# Altium integrated library Microchip Power Management Line Regulator.IntLib: 1174 symbols (part 9 of 31)
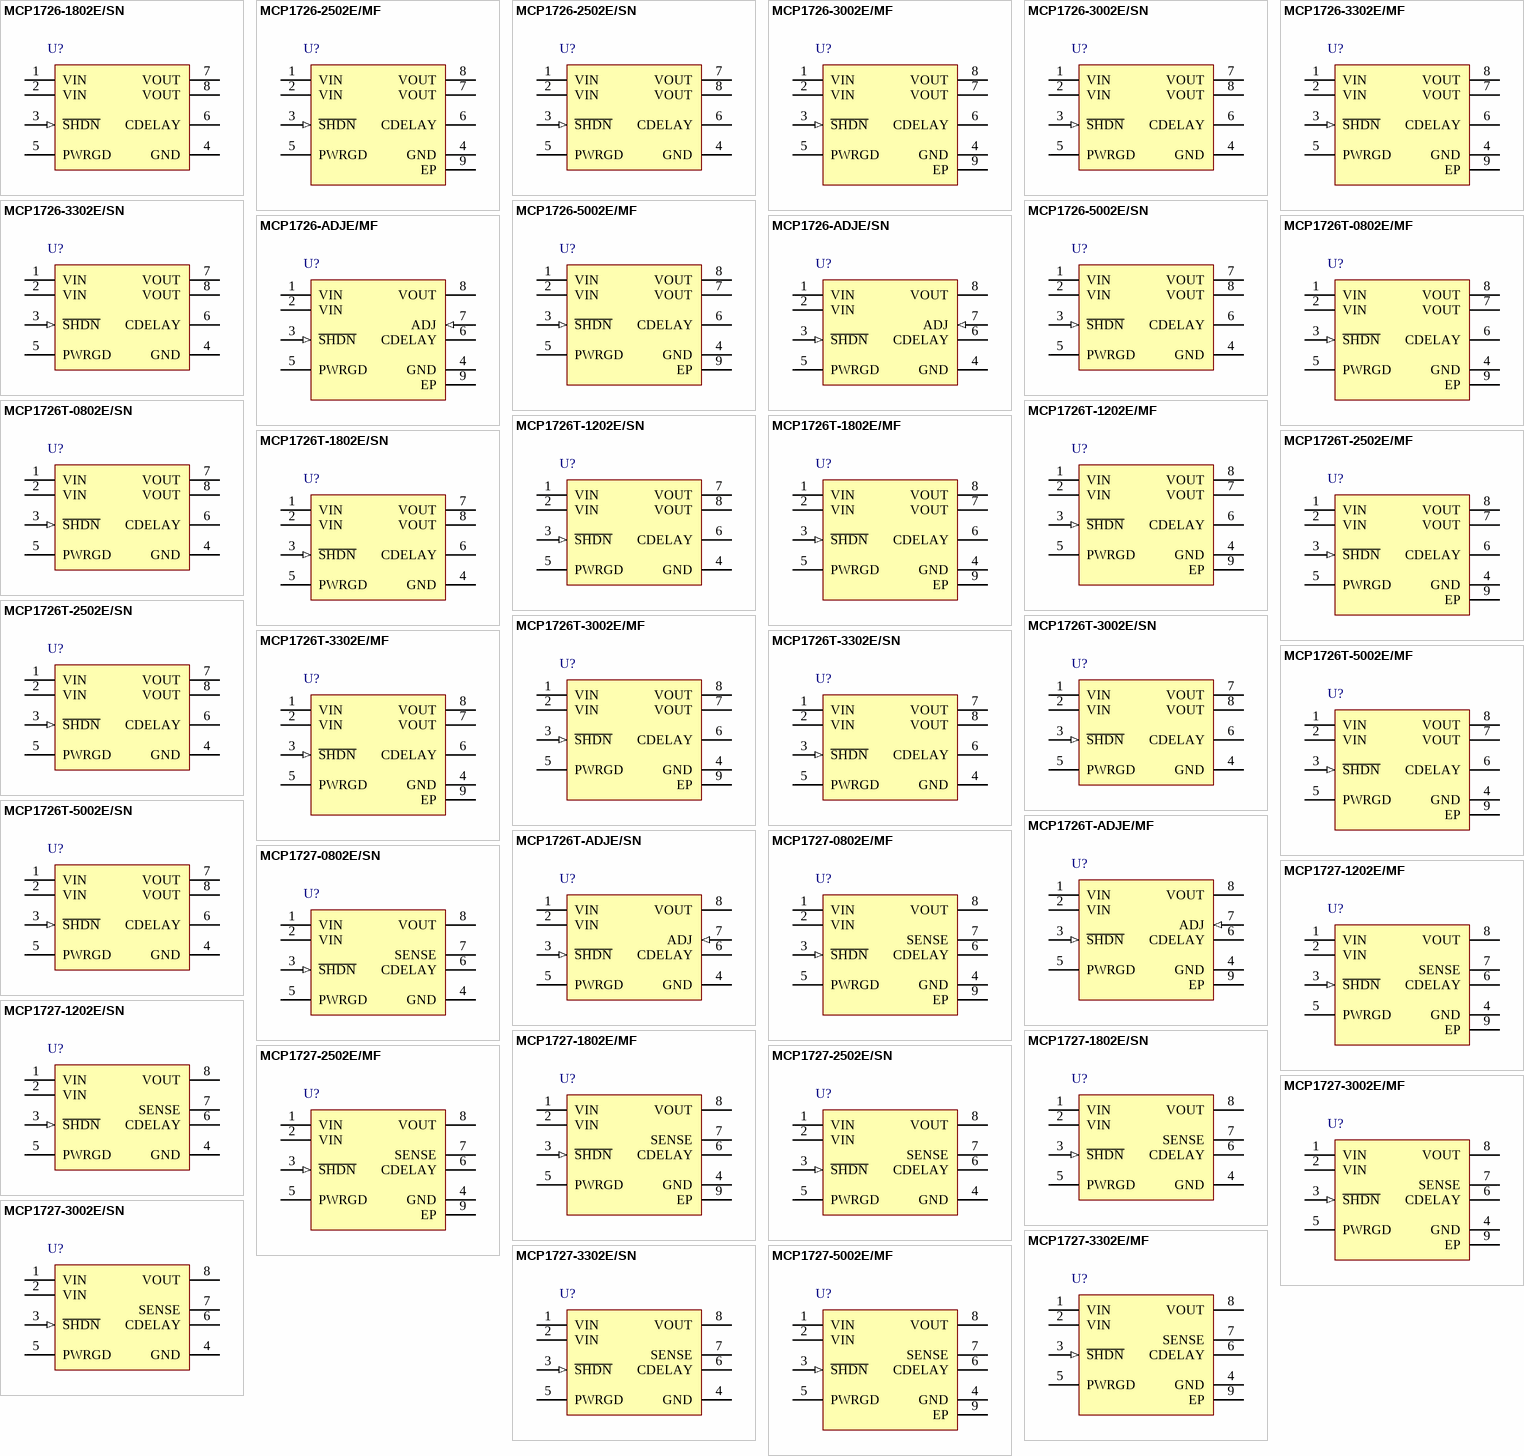
[diagram p38: symbols MCP1726-1802E/SN to MCP1727-5002E/MF]

## MCP1727-1802E/SN
designator U?
1.5A, Low Voltage, Low Quiescent Current LDO Regulator, 8-Pin SOIC 150mil, Extended Temperature; Manufacturer: Microchip; PartNumber: MCP1727-1802E/SN; DatasheetVersion: revB, Feb-2007; PackageVersion: revBB, Aug-2009; PackageReference: SOIC-SN8; PackageDescription: 8-Lead Plastic Small Outline (SN) - Narrow, 3.90mm Body [SOIC]; Supplier 1: Digi-Key; Supplier Part Number 1: MCP1727-1802E/SN-ND; Supplier 2: Farnell; Supplier Part Number 2: 1331495; Supplier 3: Newark; Supplier Part Number 3: 74K5381; Supplier 4: Mouser; Supplier Part Number 4: 579-MCP1727-1802E/SN; Mounting Technology: Surface Mount; Code_JEDEC: MS-012; Code_IPC: SOIC127P600-8; ComponentLink1Description: Manufacturer URL; ComponentLink1URL: http://www.microchip.com/; ComponentLink2Description: Datasheet; ComponentLink2URL: http://ww1.microchip.com/downloads/en/DeviceDoc/21999b.pdf; ComponentLink3Description: Package Specification; ComponentLink3URL: http://www.microchip.com/stellent/groups/techpub_sg/documents/packagingspec/en012702.pdf
footprint SOIC-SN8_N (SOIC, 8-Leads, Body 4.9x3.8mm, Pitch 1.27mm, IPC Medium Density)
footprint SOIC-SN8_L (SOIC, 8-Leads, Body 4.9x3.8mm, Pitch 1.27mm, IPC High Density)
footprint SOIC-SN8_M (SOIC, 8-Leads, Body 4.9x3.8mm, Pitch 1.27mm, IPC Low Density)
pins: 1 VIN (power), 2 VIN (power), 3 ~{SHDN} (in), 4 GND (power), 5 PWRGD (power), 6 CDELAY, 7 SENSE, 8 VOUT (power)

## MCP1727-2502E/MF
designator U?
1.5A, Low Voltage, Low Quiescent Current LDO Regulator, 8-Pin DFN, Extended Temperature; Manufacturer: Microchip; PartNumber: MCP1727-2502E/MF; DatasheetVersion: revB, Feb-2007; PackageVersion: revBB, Aug-2009; PackageReference: DFN-MF8; PackageDescription: 8-Lead Plastic Dual Flat, No Lead Package (MF) - 3x3x0.9mm Body [DFN]; Supplier 1: Digi-Key; Supplier Part Number 1: MCP1727-2502E/MF-ND; Supplier 2: Farnell; Supplier Part Number 2: 1851976; Supplier 3: Newark; Supplier Part Number 3: 74K5382; Supplier 4: Mouser; Supplier Part Number 4: 579-MCP1727-2502E/MF; Mounting Technology: Surface Mount; ComponentLink1Description: Manufacturer URL; ComponentLink1URL: http://www.microchip.com/; ComponentLink2Description: Datasheet; ComponentLink2URL: http://ww1.microchip.com/downloads/en/DeviceDoc/21999b.pdf; ComponentLink3Description: Package Specification; ComponentLink3URL: http://www.microchip.com/stellent/groups/techpub_sg/documents/packagingspec/en012702.pdf
footprint DFN-MF8 (SON, 8-Leads, Body 3x3mm, Pitch 0.65mm, Microchip Recommended)
pins: 1 VIN (power), 2 VIN (power), 3 ~{SHDN} (in), 4 GND (power), 5 PWRGD (power), 6 CDELAY, 7 SENSE, 8 VOUT (power), 9 EP (power)

## MCP1727-2502E/SN
designator U?
1.5A, Low Voltage, Low Quiescent Current LDO Regulator, 8-Pin SOIC 150mil, Extended Temperature; Manufacturer: Microchip; PartNumber: MCP1727-2502E/SN; DatasheetVersion: revB, Feb-2007; PackageVersion: revBB, Aug-2009; PackageReference: SOIC-SN8; PackageDescription: 8-Lead Plastic Small Outline (SN) - Narrow, 3.90mm Body [SOIC]; Supplier 1: Digi-Key; Supplier Part Number 1: MCP1727-2502E/SN-ND; Supplier 2: Farnell; Supplier Part Number 2: 1851977; Supplier 3: Newark; Supplier Part Number 3: 74K5383; Supplier 4: Mouser; Supplier Part Number 4: 579-MCP1727-2502E/SN; Mounting Technology: Surface Mount; Code_JEDEC: MS-012; Code_IPC: SOIC127P600-8; ComponentLink1Description: Manufacturer URL; ComponentLink1URL: http://www.microchip.com/; ComponentLink2Description: Datasheet; ComponentLink2URL: http://ww1.microchip.com/downloads/en/DeviceDoc/21999b.pdf; ComponentLink3Description: Package Specification; ComponentLink3URL: http://www.microchip.com/stellent/groups/techpub_sg/documents/packagingspec/en012702.pdf
footprint SOIC-SN8_N (SOIC, 8-Leads, Body 4.9x3.8mm, Pitch 1.27mm, IPC Medium Density)
footprint SOIC-SN8_L (SOIC, 8-Leads, Body 4.9x3.8mm, Pitch 1.27mm, IPC High Density)
footprint SOIC-SN8_M (SOIC, 8-Leads, Body 4.9x3.8mm, Pitch 1.27mm, IPC Low Density)
pins: 1 VIN (power), 2 VIN (power), 3 ~{SHDN} (in), 4 GND (power), 5 PWRGD (power), 6 CDELAY, 7 SENSE, 8 VOUT (power)

## MCP1727-3002E/MF
designator U?
1.5A, Low Voltage, Low Quiescent Current LDO Regulator, 8-Pin DFN, Extended Temperature; Manufacturer: Microchip; PartNumber: MCP1727-3002E/MF; DatasheetVersion: revB, Feb-2007; PackageVersion: revBB, Aug-2009; PackageReference: DFN-MF8; PackageDescription: 8-Lead Plastic Dual Flat, No Lead Package (MF) - 3x3x0.9mm Body [DFN]; Supplier 1: Digi-Key; Supplier Part Number 1: MCP1727-3002E/MF-ND; Supplier 2: Farnell; Supplier Part Number 2: 1863930; Supplier 3: Newark; Supplier Part Number 3: 17M0619; Supplier 4: Mouser; Supplier Part Number 4: 579-MCP1727-3002E/MF; Mounting Technology: Surface Mount; ComponentLink1Description: Manufacturer URL; ComponentLink1URL: http://www.microchip.com/; ComponentLink2Description: Datasheet; ComponentLink2URL: http://ww1.microchip.com/downloads/en/DeviceDoc/21999b.pdf; ComponentLink3Description: Package Specification; ComponentLink3URL: http://www.microchip.com/stellent/groups/techpub_sg/documents/packagingspec/en012702.pdf
footprint DFN-MF8 (SON, 8-Leads, Body 3x3mm, Pitch 0.65mm, Microchip Recommended)
pins: 1 VIN (power), 2 VIN (power), 3 ~{SHDN} (in), 4 GND (power), 5 PWRGD (power), 6 CDELAY, 7 SENSE, 8 VOUT (power), 9 EP (power)

## MCP1727-3002E/SN
designator U?
1.5A, Low Voltage, Low Quiescent Current LDO Regulator, 8-Pin SOIC 150mil, Extended Temperature; Manufacturer: Microchip; PartNumber: MCP1727-3002E/SN; DatasheetVersion: revB, Feb-2007; PackageVersion: revBB, Aug-2009; PackageReference: SOIC-SN8; PackageDescription: 8-Lead Plastic Small Outline (SN) - Narrow, 3.90mm Body [SOIC]; Supplier 1: Digi-Key; Supplier Part Number 1: MCP1727-3002E/SN-ND; Supplier 2: Farnell; Supplier Part Number 2: 1331496; Supplier 3: Mouser; Supplier Part Number 3: 579-MCP1727-3002E/SN; Mounting Technology: Surface Mount; Code_JEDEC: MS-012; Code_IPC: SOIC127P600-8; ComponentLink1Description: Manufacturer URL; ComponentLink1URL: http://www.microchip.com/; ComponentLink2Description: Datasheet; ComponentLink2URL: http://ww1.microchip.com/downloads/en/DeviceDoc/21999b.pdf; ComponentLink3Description: Package Specification; ComponentLink3URL: http://www.microchip.com/stellent/groups/techpub_sg/documents/packagingspec/en012702.pdf
footprint SOIC-SN8_N (SOIC, 8-Leads, Body 4.9x3.8mm, Pitch 1.27mm, IPC Medium Density)
footprint SOIC-SN8_L (SOIC, 8-Leads, Body 4.9x3.8mm, Pitch 1.27mm, IPC High Density)
footprint SOIC-SN8_M (SOIC, 8-Leads, Body 4.9x3.8mm, Pitch 1.27mm, IPC Low Density)
pins: 1 VIN (power), 2 VIN (power), 3 ~{SHDN} (in), 4 GND (power), 5 PWRGD (power), 6 CDELAY, 7 SENSE, 8 VOUT (power)

## MCP1727-3302E/MF
designator U?
1.5A, Low Voltage, Low Quiescent Current LDO Regulator, 8-Pin DFN, Extended Temperature; Manufacturer: Microchip; PartNumber: MCP1727-3302E/MF; DatasheetVersion: revB, Feb-2007; PackageVersion: revBB, Aug-2009; PackageReference: DFN-MF8; PackageDescription: 8-Lead Plastic Dual Flat, No Lead Package (MF) - 3x3x0.9mm Body [DFN]; Supplier 1: Digi-Key; Supplier Part Number 1: MCP1727-3302E/MF-ND; Supplier 2: Farnell; Supplier Part Number 2: 1851978; Supplier 3: Newark; Supplier Part Number 3: 74K5384; Supplier 4: Mouser; Supplier Part Number 4: 579-MCP1727-3302E/MF; Mounting Technology: Surface Mount; ComponentLink1Description: Manufacturer URL; ComponentLink1URL: http://www.microchip.com/; ComponentLink2Description: Datasheet; ComponentLink2URL: http://ww1.microchip.com/downloads/en/DeviceDoc/21999b.pdf; ComponentLink3Description: Package Specification; ComponentLink3URL: http://www.microchip.com/stellent/groups/techpub_sg/documents/packagingspec/en012702.pdf
footprint DFN-MF8 (SON, 8-Leads, Body 3x3mm, Pitch 0.65mm, Microchip Recommended)
pins: 1 VIN (power), 2 VIN (power), 3 ~{SHDN} (in), 4 GND (power), 5 PWRGD (power), 6 CDELAY, 7 SENSE, 8 VOUT (power), 9 EP (power)

## MCP1727-3302E/SN
designator U?
1.5A, Low Voltage, Low Quiescent Current LDO Regulator, 8-Pin SOIC 150mil, Extended Temperature; Manufacturer: Microchip; PartNumber: MCP1727-3302E/SN; DatasheetVersion: revB, Feb-2007; PackageVersion: revBB, Aug-2009; PackageReference: SOIC-SN8; PackageDescription: 8-Lead Plastic Small Outline (SN) - Narrow, 3.90mm Body [SOIC]; Supplier 1: Digi-Key; Supplier Part Number 1: MCP1727-3302E/SN-ND; Supplier 2: Farnell; Supplier Part Number 2: 1331497; Supplier 3: Newark; Supplier Part Number 3: 34M7431; Supplier 4: Mouser; Supplier Part Number 4: 579-MCP1727-3302E/SN; Mounting Technology: Surface Mount; Code_JEDEC: MS-012; Code_IPC: SOIC127P600-8; ComponentLink1Description: Manufacturer URL; ComponentLink1URL: http://www.microchip.com/; ComponentLink2Description: Datasheet; ComponentLink2URL: http://ww1.microchip.com/downloads/en/DeviceDoc/21999b.pdf; ComponentLink3Description: Package Specification; ComponentLink3URL: http://www.microchip.com/stellent/groups/techpub_sg/documents/packagingspec/en012702.pdf
footprint SOIC-SN8_N (SOIC, 8-Leads, Body 4.9x3.8mm, Pitch 1.27mm, IPC Medium Density)
footprint SOIC-SN8_L (SOIC, 8-Leads, Body 4.9x3.8mm, Pitch 1.27mm, IPC High Density)
footprint SOIC-SN8_M (SOIC, 8-Leads, Body 4.9x3.8mm, Pitch 1.27mm, IPC Low Density)
pins: 1 VIN (power), 2 VIN (power), 3 ~{SHDN} (in), 4 GND (power), 5 PWRGD (power), 6 CDELAY, 7 SENSE, 8 VOUT (power)

## MCP1727-5002E/MF
designator U?
1.5A, Low Voltage, Low Quiescent Current LDO Regulator, 8-Pin DFN, Extended Temperature; Manufacturer: Microchip; PartNumber: MCP1727-5002E/MF; DatasheetVersion: revB, Feb-2007; PackageVersion: revBB, Aug-2009; PackageReference: DFN-MF8; PackageDescription: 8-Lead Plastic Dual Flat, No Lead Package (MF) - 3x3x0.9mm Body [DFN]; Supplier 1: Digi-Key; Supplier Part Number 1: MCP1727-5002E/MF-ND; Supplier 2: Farnell; Supplier Part Number 2: 1863931; Supplier 3: Newark; Supplier Part Number 3: 74K5386; Supplier 4: Mouser; Supplier Part Number 4: 579-MCP1727-5002E/MF; Mounting Technology: Surface Mount; ComponentLink1Description: Manufacturer URL; ComponentLink1URL: http://www.microchip.com/; ComponentLink2Description: Datasheet; ComponentLink2URL: http://ww1.microchip.com/downloads/en/DeviceDoc/21999b.pdf; ComponentLink3Description: Package Specification; ComponentLink3URL: http://www.microchip.com/stellent/groups/techpub_sg/documents/packagingspec/en012702.pdf
footprint DFN-MF8 (SON, 8-Leads, Body 3x3mm, Pitch 0.65mm, Microchip Recommended)
pins: 1 VIN (power), 2 VIN (power), 3 ~{SHDN} (in), 4 GND (power), 5 PWRGD (power), 6 CDELAY, 7 SENSE, 8 VOUT (power), 9 EP (power)

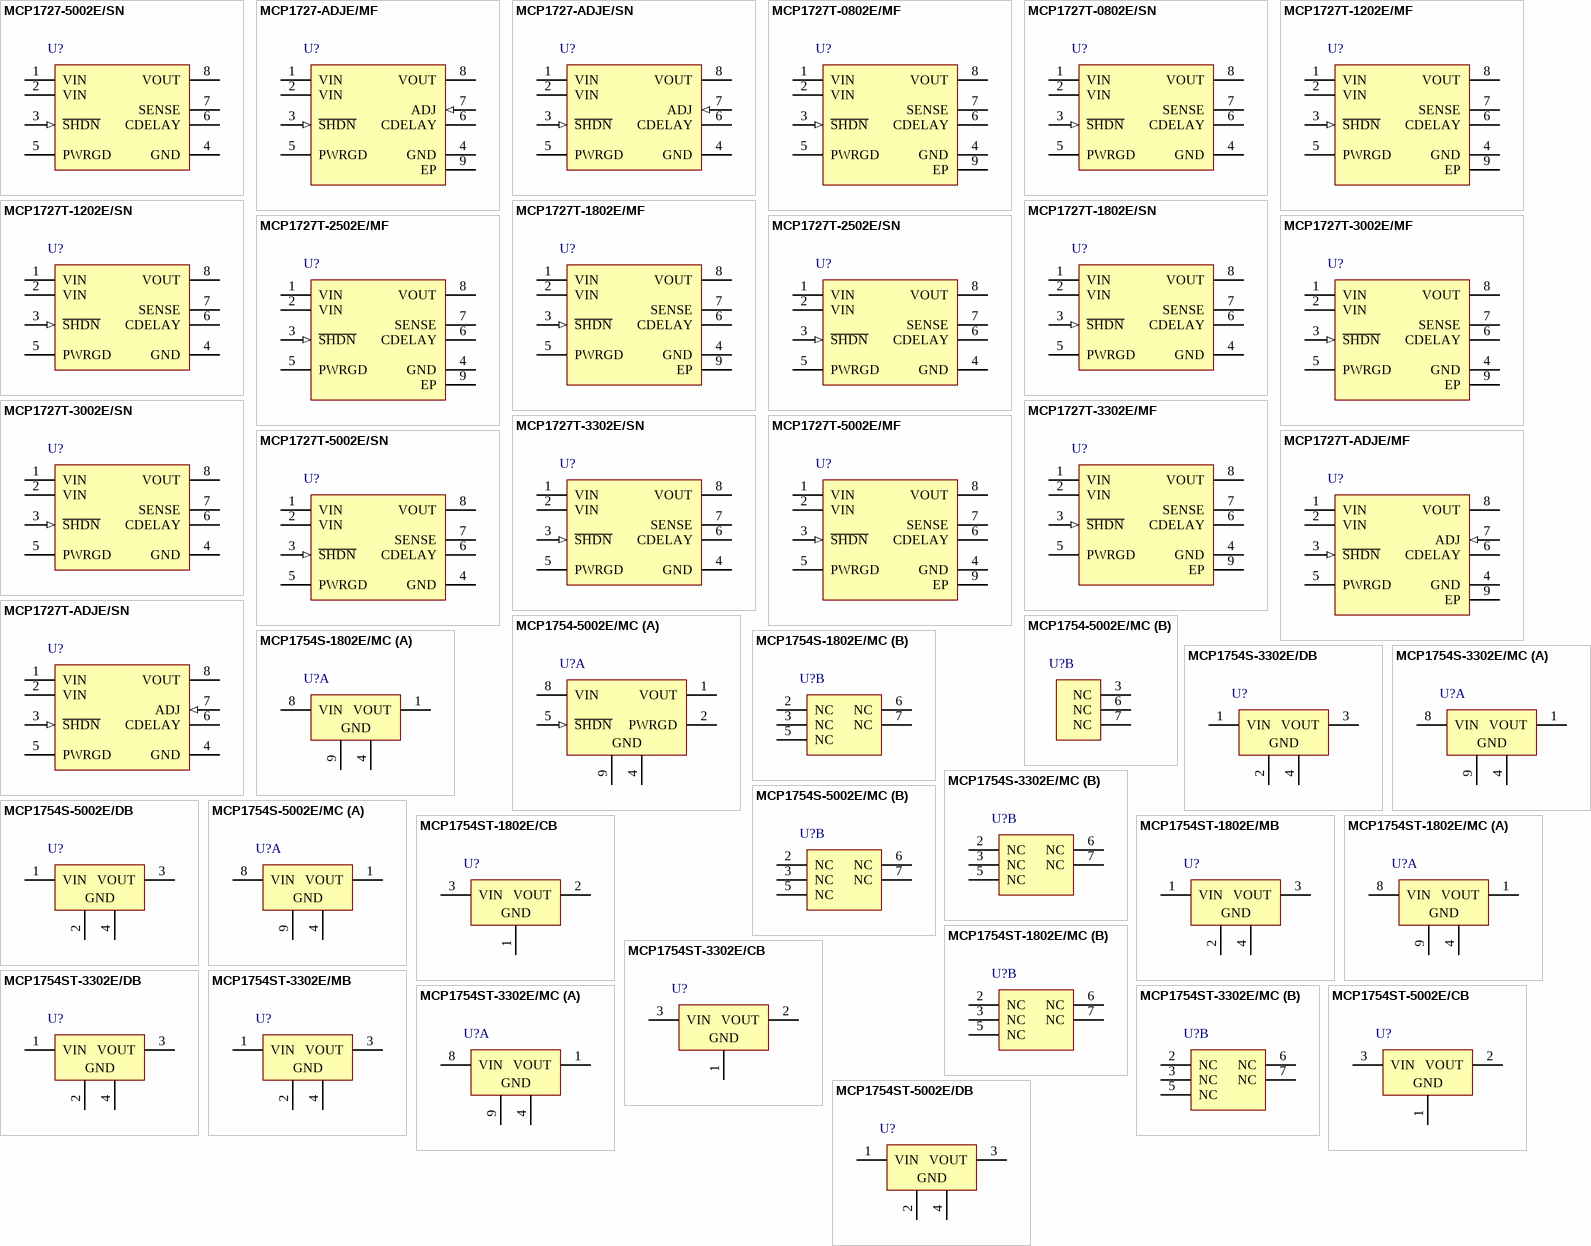
[diagram p8: symbols MCP1727-5002E/SN to MCP1754ST-5002E/DB]

## MCP1727-5002E/SN
designator U?
1.5A, Low Voltage, Low Quiescent Current LDO Regulator, 8-Pin SOIC 150mil, Extended Temperature; Manufacturer: Microchip; PartNumber: MCP1727-5002E/SN; DatasheetVersion: revB, Feb-2007; PackageVersion: revBB, Aug-2009; PackageReference: SOIC-SN8; PackageDescription: 8-Lead Plastic Small Outline (SN) - Narrow, 3.90mm Body [SOIC]; Supplier 1: Digi-Key; Supplier Part Number 1: MCP1727-5002E/SN-ND; Supplier 2: Mouser; Supplier Part Number 2: 579-MCP1727-5002E/SN; Mounting Technology: Surface Mount; Code_JEDEC: MS-012; Code_IPC: SOIC127P600-8; ComponentLink1Description: Manufacturer URL; ComponentLink1URL: http://www.microchip.com/; ComponentLink2Description: Datasheet; ComponentLink2URL: http://ww1.microchip.com/downloads/en/DeviceDoc/21999b.pdf; ComponentLink3Description: Package Specification; ComponentLink3URL: http://www.microchip.com/stellent/groups/techpub_sg/documents/packagingspec/en012702.pdf
footprint SOIC-SN8_N (SOIC, 8-Leads, Body 4.9x3.8mm, Pitch 1.27mm, IPC Medium Density)
footprint SOIC-SN8_L (SOIC, 8-Leads, Body 4.9x3.8mm, Pitch 1.27mm, IPC High Density)
footprint SOIC-SN8_M (SOIC, 8-Leads, Body 4.9x3.8mm, Pitch 1.27mm, IPC Low Density)
pins: 1 VIN (power), 2 VIN (power), 3 ~{SHDN} (in), 4 GND (power), 5 PWRGD (power), 6 CDELAY, 7 SENSE, 8 VOUT (power)

## MCP1727-ADJE/MF
designator U?
1.5A, Low Voltage, Low Quiescent Current LDO Regulator, 8-Pin DFN, Extended Temperature; Manufacturer: Microchip; PartNumber: MCP1727-ADJE/MF; DatasheetVersion: revB, Feb-2007; PackageVersion: revBB, Aug-2009; PackageReference: DFN-MF8; PackageDescription: 8-Lead Plastic Dual Flat, No Lead Package (MF) - 3x3x0.9mm Body [DFN]; Supplier 1: Digi-Key; Supplier Part Number 1: MCP1727-ADJE/MF-ND; Supplier 2: Farnell; Supplier Part Number 2: 1851979; Supplier 3: Newark; Supplier Part Number 3: 74K5374; Supplier 4: Mouser; Supplier Part Number 4: 579-MCP1727-ADJE/MF; Mounting Technology: Surface Mount; ComponentLink1Description: Manufacturer URL; ComponentLink1URL: http://www.microchip.com/; ComponentLink2Description: Datasheet; ComponentLink2URL: http://ww1.microchip.com/downloads/en/DeviceDoc/21999b.pdf; ComponentLink3Description: Package Specification; ComponentLink3URL: http://www.microchip.com/stellent/groups/techpub_sg/documents/packagingspec/en012702.pdf
footprint DFN-MF8 (SON, 8-Leads, Body 3x3mm, Pitch 0.65mm, Microchip Recommended)
pins: 1 VIN (power), 2 VIN (power), 3 ~{SHDN} (in), 4 GND (power), 5 PWRGD (power), 6 CDELAY, 7 ADJ (in), 8 VOUT (power), 9 EP (power)

## MCP1727-ADJE/SN
designator U?
1.5A, Low Voltage, Low Quiescent Current LDO Regulator, 8-Pin SOIC 150mil, Extended Temperature; Manufacturer: Microchip; PartNumber: MCP1727-ADJE/SN; DatasheetVersion: revB, Feb-2007; PackageVersion: revBB, Aug-2009; PackageReference: SOIC-SN8; PackageDescription: 8-Lead Plastic Small Outline (SN) - Narrow, 3.90mm Body [SOIC]; Supplier 1: Digi-Key; Supplier Part Number 1: MCP1727-ADJE/SN-ND; Supplier 2: Farnell; Supplier Part Number 2: 1840849; Supplier 3: Newark; Supplier Part Number 3: 74K5375; Supplier 4: Mouser; Supplier Part Number 4: 579-MCP1727-ADJE/SN; Mounting Technology: Surface Mount; Code_JEDEC: MS-012; Code_IPC: SOIC127P600-8; ComponentLink1Description: Manufacturer URL; ComponentLink1URL: http://www.microchip.com/; ComponentLink2Description: Datasheet; ComponentLink2URL: http://ww1.microchip.com/downloads/en/DeviceDoc/21999b.pdf; ComponentLink3Description: Package Specification; ComponentLink3URL: http://www.microchip.com/stellent/groups/techpub_sg/documents/packagingspec/en012702.pdf
footprint SOIC-SN8_N (SOIC, 8-Leads, Body 4.9x3.8mm, Pitch 1.27mm, IPC Medium Density)
footprint SOIC-SN8_L (SOIC, 8-Leads, Body 4.9x3.8mm, Pitch 1.27mm, IPC High Density)
footprint SOIC-SN8_M (SOIC, 8-Leads, Body 4.9x3.8mm, Pitch 1.27mm, IPC Low Density)
pins: 1 VIN (power), 2 VIN (power), 3 ~{SHDN} (in), 4 GND (power), 5 PWRGD (power), 6 CDELAY, 7 ADJ (in), 8 VOUT (power)

## MCP1727T-0802E/MF
designator U?
1.5A, Low Voltage, Low Quiescent Current LDO Regulator, 8-Pin DFN, Extended Temperature, Tape and Reel; Manufacturer: Microchip; PartNumber: MCP1727T-0802E/MF; DatasheetVersion: revB, Feb-2007; PackageVersion: revBB, Aug-2009; PackageReference: DFN-MF8; PackageDescription: 8-Lead Plastic Dual Flat, No Lead Package (MF) - 3x3x0.9mm Body [DFN]; Supplier 1: Digi-Key; Supplier Part Number 1: MCP1727T-0802E/MF-ND; Supplier 2: Mouser; Supplier Part Number 2: 579-MCP1727T-0802EMF; Mounting Technology: Surface Mount; ComponentLink1Description: Manufacturer URL; ComponentLink1URL: http://www.microchip.com/; ComponentLink2Description: Datasheet; ComponentLink2URL: http://ww1.microchip.com/downloads/en/DeviceDoc/21999b.pdf; ComponentLink3Description: Package Specification; ComponentLink3URL: http://www.microchip.com/stellent/groups/techpub_sg/documents/packagingspec/en012702.pdf
footprint DFN-MF8 (SON, 8-Leads, Body 3x3mm, Pitch 0.65mm, Microchip Recommended)
pins: 1 VIN (power), 2 VIN (power), 3 ~{SHDN} (in), 4 GND (power), 5 PWRGD (power), 6 CDELAY, 7 SENSE, 8 VOUT (power), 9 EP (power)

## MCP1727T-0802E/SN
designator U?
1.5A, Low Voltage, Low Quiescent Current LDO Regulator, 8-Pin SOIC 150mil, Extended Temperature, Tape and Reel; Manufacturer: Microchip; PartNumber: MCP1727T-0802E/SN; DatasheetVersion: revB, Feb-2007; PackageVersion: revBB, Aug-2009; PackageReference: SOIC-SN8; PackageDescription: 8-Lead Plastic Small Outline (SN) - Narrow, 3.90mm Body [SOIC]; Supplier 1: Digi-Key; Supplier Part Number 1: MCP1727T-0802E/SN-ND; Supplier 2: Mouser; Supplier Part Number 2: 579-MCP1727T-0802ESN; Mounting Technology: Surface Mount; Code_JEDEC: MS-012; Code_IPC: SOIC127P600-8; ComponentLink1Description: Manufacturer URL; ComponentLink1URL: http://www.microchip.com/; ComponentLink2Description: Datasheet; ComponentLink2URL: http://ww1.microchip.com/downloads/en/DeviceDoc/21999b.pdf; ComponentLink3Description: Package Specification; ComponentLink3URL: http://www.microchip.com/stellent/groups/techpub_sg/documents/packagingspec/en012702.pdf
footprint SOIC-SN8_N (SOIC, 8-Leads, Body 4.9x3.8mm, Pitch 1.27mm, IPC Medium Density)
footprint SOIC-SN8_L (SOIC, 8-Leads, Body 4.9x3.8mm, Pitch 1.27mm, IPC High Density)
footprint SOIC-SN8_M (SOIC, 8-Leads, Body 4.9x3.8mm, Pitch 1.27mm, IPC Low Density)
pins: 1 VIN (power), 2 VIN (power), 3 ~{SHDN} (in), 4 GND (power), 5 PWRGD (power), 6 CDELAY, 7 SENSE, 8 VOUT (power)

## MCP1727T-1202E/MF
designator U?
1.5A, Low Voltage, Low Quiescent Current LDO Regulator, 8-Pin DFN, Extended Temperature, Tape and Reel; Manufacturer: Microchip; PartNumber: MCP1727T-1202E/MF; DatasheetVersion: revB, Feb-2007; PackageVersion: revBB, Aug-2009; PackageReference: DFN-MF8; PackageDescription: 8-Lead Plastic Dual Flat, No Lead Package (MF) - 3x3x0.9mm Body [DFN]; Supplier 1: Digi-Key; Supplier Part Number 1: MCP1727T-1202E/MF-ND; Supplier 2: Mouser; Supplier Part Number 2: 579-MCP1727T-1202EMF; Mounting Technology: Surface Mount; ComponentLink1Description: Manufacturer URL; ComponentLink1URL: http://www.microchip.com/; ComponentLink2Description: Datasheet; ComponentLink2URL: http://ww1.microchip.com/downloads/en/DeviceDoc/21999b.pdf; ComponentLink3Description: Package Specification; ComponentLink3URL: http://www.microchip.com/stellent/groups/techpub_sg/documents/packagingspec/en012702.pdf
footprint DFN-MF8 (SON, 8-Leads, Body 3x3mm, Pitch 0.65mm, Microchip Recommended)
pins: 1 VIN (power), 2 VIN (power), 3 ~{SHDN} (in), 4 GND (power), 5 PWRGD (power), 6 CDELAY, 7 SENSE, 8 VOUT (power), 9 EP (power)

## MCP1727T-1202E/SN
designator U?
1.5A, Low Voltage, Low Quiescent Current LDO Regulator, 8-Pin SOIC 150mil, Extended Temperature, Tape and Reel; Manufacturer: Microchip; PartNumber: MCP1727T-1202E/SN; DatasheetVersion: revB, Feb-2007; PackageVersion: revBB, Aug-2009; PackageReference: SOIC-SN8; PackageDescription: 8-Lead Plastic Small Outline (SN) - Narrow, 3.90mm Body [SOIC]; Supplier 1: Digi-Key; Supplier Part Number 1: MCP1727T-1202E/SN-ND; Supplier 2: Mouser; Supplier Part Number 2: 579-MCP1727T-1202ESN; Mounting Technology: Surface Mount; Code_JEDEC: MS-012; Code_IPC: SOIC127P600-8; ComponentLink1Description: Manufacturer URL; ComponentLink1URL: http://www.microchip.com/; ComponentLink2Description: Datasheet; ComponentLink2URL: http://ww1.microchip.com/downloads/en/DeviceDoc/21999b.pdf; ComponentLink3Description: Package Specification; ComponentLink3URL: http://www.microchip.com/stellent/groups/techpub_sg/documents/packagingspec/en012702.pdf
footprint SOIC-SN8_N (SOIC, 8-Leads, Body 4.9x3.8mm, Pitch 1.27mm, IPC Medium Density)
footprint SOIC-SN8_L (SOIC, 8-Leads, Body 4.9x3.8mm, Pitch 1.27mm, IPC High Density)
footprint SOIC-SN8_M (SOIC, 8-Leads, Body 4.9x3.8mm, Pitch 1.27mm, IPC Low Density)
pins: 1 VIN (power), 2 VIN (power), 3 ~{SHDN} (in), 4 GND (power), 5 PWRGD (power), 6 CDELAY, 7 SENSE, 8 VOUT (power)

## MCP1727T-1802E/MF
designator U?
1.5A, Low Voltage, Low Quiescent Current LDO Regulator, 8-Pin DFN, Extended Temperature, Tape and Reel; Manufacturer: Microchip; PartNumber: MCP1727T-1802E/MF; DatasheetVersion: revB, Feb-2007; PackageVersion: revBB, Aug-2009; PackageReference: DFN-MF8; PackageDescription: 8-Lead Plastic Dual Flat, No Lead Package (MF) - 3x3x0.9mm Body [DFN]; Supplier 1: Digi-Key; Supplier Part Number 1: MCP1727T-1802E/MF-ND; Supplier 2: Mouser; Supplier Part Number 2: 579-MCP1727T-1802EMF; Mounting Technology: Surface Mount; ComponentLink1Description: Manufacturer URL; ComponentLink1URL: http://www.microchip.com/; ComponentLink2Description: Datasheet; ComponentLink2URL: http://ww1.microchip.com/downloads/en/DeviceDoc/21999b.pdf; ComponentLink3Description: Package Specification; ComponentLink3URL: http://www.microchip.com/stellent/groups/techpub_sg/documents/packagingspec/en012702.pdf
footprint DFN-MF8 (SON, 8-Leads, Body 3x3mm, Pitch 0.65mm, Microchip Recommended)
pins: 1 VIN (power), 2 VIN (power), 3 ~{SHDN} (in), 4 GND (power), 5 PWRGD (power), 6 CDELAY, 7 SENSE, 8 VOUT (power), 9 EP (power)

## MCP1727T-1802E/SN
designator U?
1.5A, Low Voltage, Low Quiescent Current LDO Regulator, 8-Pin SOIC 150mil, Extended Temperature, Tape and Reel; Manufacturer: Microchip; PartNumber: MCP1727T-1802E/SN; DatasheetVersion: revB, Feb-2007; PackageVersion: revBB, Aug-2009; PackageReference: SOIC-SN8; PackageDescription: 8-Lead Plastic Small Outline (SN) - Narrow, 3.90mm Body [SOIC]; Supplier 1: Digi-Key; Supplier Part Number 1: MCP1727T-1802E/SN-ND; Supplier 2: Mouser; Supplier Part Number 2: 579-MCP1727T-1802ESN; Mounting Technology: Surface Mount; Code_JEDEC: MS-012; Code_IPC: SOIC127P600-8; ComponentLink1Description: Manufacturer URL; ComponentLink1URL: http://www.microchip.com/; ComponentLink2Description: Datasheet; ComponentLink2URL: http://ww1.microchip.com/downloads/en/DeviceDoc/21999b.pdf; ComponentLink3Description: Package Specification; ComponentLink3URL: http://www.microchip.com/stellent/groups/techpub_sg/documents/packagingspec/en012702.pdf
footprint SOIC-SN8_N (SOIC, 8-Leads, Body 4.9x3.8mm, Pitch 1.27mm, IPC Medium Density)
footprint SOIC-SN8_L (SOIC, 8-Leads, Body 4.9x3.8mm, Pitch 1.27mm, IPC High Density)
footprint SOIC-SN8_M (SOIC, 8-Leads, Body 4.9x3.8mm, Pitch 1.27mm, IPC Low Density)
pins: 1 VIN (power), 2 VIN (power), 3 ~{SHDN} (in), 4 GND (power), 5 PWRGD (power), 6 CDELAY, 7 SENSE, 8 VOUT (power)

## MCP1727T-2502E/MF
designator U?
1.5A, Low Voltage, Low Quiescent Current LDO Regulator, 8-Pin DFN, Extended Temperature, Tape and Reel; Manufacturer: Microchip; PartNumber: MCP1727T-2502E/MF; DatasheetVersion: revB, Feb-2007; PackageVersion: revBB, Aug-2009; PackageReference: DFN-MF8; PackageDescription: 8-Lead Plastic Dual Flat, No Lead Package (MF) - 3x3x0.9mm Body [DFN]; Supplier 1: Digi-Key; Supplier Part Number 1: MCP1727T-2502E/MF-ND; Supplier 2: Mouser; Supplier Part Number 2: 579-MCP1727T-2502EMF; Mounting Technology: Surface Mount; ComponentLink1Description: Manufacturer URL; ComponentLink1URL: http://www.microchip.com/; ComponentLink2Description: Datasheet; ComponentLink2URL: http://ww1.microchip.com/downloads/en/DeviceDoc/21999b.pdf; ComponentLink3Description: Package Specification; ComponentLink3URL: http://www.microchip.com/stellent/groups/techpub_sg/documents/packagingspec/en012702.pdf
footprint DFN-MF8 (SON, 8-Leads, Body 3x3mm, Pitch 0.65mm, Microchip Recommended)
pins: 1 VIN (power), 2 VIN (power), 3 ~{SHDN} (in), 4 GND (power), 5 PWRGD (power), 6 CDELAY, 7 SENSE, 8 VOUT (power), 9 EP (power)

## MCP1727T-2502E/SN
designator U?
1.5A, Low Voltage, Low Quiescent Current LDO Regulator, 8-Pin SOIC 150mil, Extended Temperature, Tape and Reel; Manufacturer: Microchip; PartNumber: MCP1727T-2502E/SN; DatasheetVersion: revB, Feb-2007; PackageVersion: revBB, Aug-2009; PackageReference: SOIC-SN8; PackageDescription: 8-Lead Plastic Small Outline (SN) - Narrow, 3.90mm Body [SOIC]; Supplier 1: Digi-Key; Supplier Part Number 1: MCP1727T-2502E/SN-ND; Supplier 2: Mouser; Supplier Part Number 2: 579-MCP1727T-2502ESN; Mounting Technology: Surface Mount; Code_JEDEC: MS-012; Code_IPC: SOIC127P600-8; ComponentLink1Description: Manufacturer URL; ComponentLink1URL: http://www.microchip.com/; ComponentLink2Description: Datasheet; ComponentLink2URL: http://ww1.microchip.com/downloads/en/DeviceDoc/21999b.pdf; ComponentLink3Description: Package Specification; ComponentLink3URL: http://www.microchip.com/stellent/groups/techpub_sg/documents/packagingspec/en012702.pdf
footprint SOIC-SN8_N (SOIC, 8-Leads, Body 4.9x3.8mm, Pitch 1.27mm, IPC Medium Density)
footprint SOIC-SN8_L (SOIC, 8-Leads, Body 4.9x3.8mm, Pitch 1.27mm, IPC High Density)
footprint SOIC-SN8_M (SOIC, 8-Leads, Body 4.9x3.8mm, Pitch 1.27mm, IPC Low Density)
pins: 1 VIN (power), 2 VIN (power), 3 ~{SHDN} (in), 4 GND (power), 5 PWRGD (power), 6 CDELAY, 7 SENSE, 8 VOUT (power)

## MCP1727T-3002E/MF
designator U?
1.5A, Low Voltage, Low Quiescent Current LDO Regulator, 8-Pin DFN, Extended Temperature, Tape and Reel; Manufacturer: Microchip; PartNumber: MCP1727T-3002E/MF; DatasheetVersion: revB, Feb-2007; PackageVersion: revBB, Aug-2009; PackageReference: DFN-MF8; PackageDescription: 8-Lead Plastic Dual Flat, No Lead Package (MF) - 3x3x0.9mm Body [DFN]; Supplier 1: Digi-Key; Supplier Part Number 1: MCP1727T-3002E/MF-ND; Supplier 2: Mouser; Supplier Part Number 2: 579-MCP1727T-3002EMF; Mounting Technology: Surface Mount; ComponentLink1Description: Manufacturer URL; ComponentLink1URL: http://www.microchip.com/; ComponentLink2Description: Datasheet; ComponentLink2URL: http://ww1.microchip.com/downloads/en/DeviceDoc/21999b.pdf; ComponentLink3Description: Package Specification; ComponentLink3URL: http://www.microchip.com/stellent/groups/techpub_sg/documents/packagingspec/en012702.pdf
footprint DFN-MF8 (SON, 8-Leads, Body 3x3mm, Pitch 0.65mm, Microchip Recommended)
pins: 1 VIN (power), 2 VIN (power), 3 ~{SHDN} (in), 4 GND (power), 5 PWRGD (power), 6 CDELAY, 7 SENSE, 8 VOUT (power), 9 EP (power)

## MCP1727T-3002E/SN
designator U?
1.5A, Low Voltage, Low Quiescent Current LDO Regulator, 8-Pin SOIC 150mil, Extended Temperature, Tape and Reel; Manufacturer: Microchip; PartNumber: MCP1727T-3002E/SN; DatasheetVersion: revB, Feb-2007; PackageVersion: revBB, Aug-2009; PackageReference: SOIC-SN8; PackageDescription: 8-Lead Plastic Small Outline (SN) - Narrow, 3.90mm Body [SOIC]; Supplier 1: Digi-Key; Supplier Part Number 1: MCP1727T-3002E/SN-ND; Supplier 2: Mouser; Supplier Part Number 2: 579-MCP1727T-3002ESN; Mounting Technology: Surface Mount; Code_JEDEC: MS-012; Code_IPC: SOIC127P600-8; ComponentLink1Description: Manufacturer URL; ComponentLink1URL: http://www.microchip.com/; ComponentLink2Description: Datasheet; ComponentLink2URL: http://ww1.microchip.com/downloads/en/DeviceDoc/21999b.pdf; ComponentLink3Description: Package Specification; ComponentLink3URL: http://www.microchip.com/stellent/groups/techpub_sg/documents/packagingspec/en012702.pdf
footprint SOIC-SN8_N (SOIC, 8-Leads, Body 4.9x3.8mm, Pitch 1.27mm, IPC Medium Density)
footprint SOIC-SN8_L (SOIC, 8-Leads, Body 4.9x3.8mm, Pitch 1.27mm, IPC High Density)
footprint SOIC-SN8_M (SOIC, 8-Leads, Body 4.9x3.8mm, Pitch 1.27mm, IPC Low Density)
pins: 1 VIN (power), 2 VIN (power), 3 ~{SHDN} (in), 4 GND (power), 5 PWRGD (power), 6 CDELAY, 7 SENSE, 8 VOUT (power)

## MCP1727T-3302E/MF
designator U?
1.5A, Low Voltage, Low Quiescent Current LDO Regulator, 8-Pin DFN, Extended Temperature, Tape and Reel; Manufacturer: Microchip; PartNumber: MCP1727T-3302E/MF; DatasheetVersion: revB, Feb-2007; PackageVersion: revBB, Aug-2009; PackageReference: DFN-MF8; PackageDescription: 8-Lead Plastic Dual Flat, No Lead Package (MF) - 3x3x0.9mm Body [DFN]; Supplier 1: Digi-Key; Supplier Part Number 1: MCP1727T-3302E/MF-ND; Supplier 2: Mouser; Supplier Part Number 2: 579-MCP1727T-3302EMF; Mounting Technology: Surface Mount; ComponentLink1Description: Manufacturer URL; ComponentLink1URL: http://www.microchip.com/; ComponentLink2Description: Datasheet; ComponentLink2URL: http://ww1.microchip.com/downloads/en/DeviceDoc/21999b.pdf; ComponentLink3Description: Package Specification; ComponentLink3URL: http://www.microchip.com/stellent/groups/techpub_sg/documents/packagingspec/en012702.pdf
footprint DFN-MF8 (SON, 8-Leads, Body 3x3mm, Pitch 0.65mm, Microchip Recommended)
pins: 1 VIN (power), 2 VIN (power), 3 ~{SHDN} (in), 4 GND (power), 5 PWRGD (power), 6 CDELAY, 7 SENSE, 8 VOUT (power), 9 EP (power)

## MCP1727T-3302E/SN
designator U?
1.5A, Low Voltage, Low Quiescent Current LDO Regulator, 8-Pin SOIC 150mil, Extended Temperature, Tape and Reel; Manufacturer: Microchip; PartNumber: MCP1727T-3302E/SN; DatasheetVersion: revB, Feb-2007; PackageVersion: revBB, Aug-2009; PackageReference: SOIC-SN8; PackageDescription: 8-Lead Plastic Small Outline (SN) - Narrow, 3.90mm Body [SOIC]; Supplier 1: Digi-Key; Supplier Part Number 1: MCP1727T-3302E/SN-ND; Supplier 2: Mouser; Supplier Part Number 2: 579-MCP1727T-3302ESN; Mounting Technology: Surface Mount; Code_JEDEC: MS-012; Code_IPC: SOIC127P600-8; ComponentLink1Description: Manufacturer URL; ComponentLink1URL: http://www.microchip.com/; ComponentLink2Description: Datasheet; ComponentLink2URL: http://ww1.microchip.com/downloads/en/DeviceDoc/21999b.pdf; ComponentLink3Description: Package Specification; ComponentLink3URL: http://www.microchip.com/stellent/groups/techpub_sg/documents/packagingspec/en012702.pdf
footprint SOIC-SN8_N (SOIC, 8-Leads, Body 4.9x3.8mm, Pitch 1.27mm, IPC Medium Density)
footprint SOIC-SN8_L (SOIC, 8-Leads, Body 4.9x3.8mm, Pitch 1.27mm, IPC High Density)
footprint SOIC-SN8_M (SOIC, 8-Leads, Body 4.9x3.8mm, Pitch 1.27mm, IPC Low Density)
pins: 1 VIN (power), 2 VIN (power), 3 ~{SHDN} (in), 4 GND (power), 5 PWRGD (power), 6 CDELAY, 7 SENSE, 8 VOUT (power)

## MCP1727T-5002E/MF
designator U?
1.5A, Low Voltage, Low Quiescent Current LDO Regulator, 8-Pin DFN, Extended Temperature, Tape and Reel; Manufacturer: Microchip; PartNumber: MCP1727T-5002E/MF; DatasheetVersion: revB, Feb-2007; PackageVersion: revBB, Aug-2009; PackageReference: DFN-MF8; PackageDescription: 8-Lead Plastic Dual Flat, No Lead Package (MF) - 3x3x0.9mm Body [DFN]; Supplier 1: Digi-Key; Supplier Part Number 1: MCP1727T-5002E/MF-ND; Supplier 2: Mouser; Supplier Part Number 2: 579-MCP1727T-5002EMF; Mounting Technology: Surface Mount; ComponentLink1Description: Manufacturer URL; ComponentLink1URL: http://www.microchip.com/; ComponentLink2Description: Datasheet; ComponentLink2URL: http://ww1.microchip.com/downloads/en/DeviceDoc/21999b.pdf; ComponentLink3Description: Package Specification; ComponentLink3URL: http://www.microchip.com/stellent/groups/techpub_sg/documents/packagingspec/en012702.pdf
footprint DFN-MF8 (SON, 8-Leads, Body 3x3mm, Pitch 0.65mm, Microchip Recommended)
pins: 1 VIN (power), 2 VIN (power), 3 ~{SHDN} (in), 4 GND (power), 5 PWRGD (power), 6 CDELAY, 7 SENSE, 8 VOUT (power), 9 EP (power)

## MCP1727T-5002E/SN
designator U?
1.5A, Low Voltage, Low Quiescent Current LDO Regulator, 8-Pin SOIC 150mil, Extended Temperature, Tape and Reel; Manufacturer: Microchip; PartNumber: MCP1727T-5002E/SN; DatasheetVersion: revB, Feb-2007; PackageVersion: revBB, Aug-2009; PackageReference: SOIC-SN8; PackageDescription: 8-Lead Plastic Small Outline (SN) - Narrow, 3.90mm Body [SOIC]; Supplier 1: Digi-Key; Supplier Part Number 1: MCP1727T-5002E/SN-ND; Supplier 2: Mouser; Supplier Part Number 2: 579-MCP1727T-5002ESN; Mounting Technology: Surface Mount; Code_JEDEC: MS-012; Code_IPC: SOIC127P600-8; ComponentLink1Description: Manufacturer URL; ComponentLink1URL: http://www.microchip.com/; ComponentLink2Description: Datasheet; ComponentLink2URL: http://ww1.microchip.com/downloads/en/DeviceDoc/21999b.pdf; ComponentLink3Description: Package Specification; ComponentLink3URL: http://www.microchip.com/stellent/groups/techpub_sg/documents/packagingspec/en012702.pdf
footprint SOIC-SN8_N (SOIC, 8-Leads, Body 4.9x3.8mm, Pitch 1.27mm, IPC Medium Density)
footprint SOIC-SN8_L (SOIC, 8-Leads, Body 4.9x3.8mm, Pitch 1.27mm, IPC High Density)
footprint SOIC-SN8_M (SOIC, 8-Leads, Body 4.9x3.8mm, Pitch 1.27mm, IPC Low Density)
pins: 1 VIN (power), 2 VIN (power), 3 ~{SHDN} (in), 4 GND (power), 5 PWRGD (power), 6 CDELAY, 7 SENSE, 8 VOUT (power)

## MCP1727T-ADJE/MF
designator U?
1.5A, Low Voltage, Low Quiescent Current LDO Regulator, 8-Pin DFN, Extended Temperature, Tape and Reel; Manufacturer: Microchip; PartNumber: MCP1727T-ADJE/MF; DatasheetVersion: revB, Feb-2007; PackageVersion: revBB, Aug-2009; PackageReference: DFN-MF8; PackageDescription: 8-Lead Plastic Dual Flat, No Lead Package (MF) - 3x3x0.9mm Body [DFN]; Supplier 1: Digi-Key; Supplier Part Number 1: MCP1727T-ADJE/MF-ND; Supplier 2: Newark; Supplier Part Number 2: 74K5388; Supplier 3: Mouser; Supplier Part Number 3: 579-MCP1727T-ADJE/MF; Mounting Technology: Surface Mount; ComponentLink1Description: Manufacturer URL; ComponentLink1URL: http://www.microchip.com/; ComponentLink2Description: Datasheet; ComponentLink2URL: http://ww1.microchip.com/downloads/en/DeviceDoc/21999b.pdf; ComponentLink3Description: Package Specification; ComponentLink3URL: http://www.microchip.com/stellent/groups/techpub_sg/documents/packagingspec/en012702.pdf
footprint DFN-MF8 (SON, 8-Leads, Body 3x3mm, Pitch 0.65mm, Microchip Recommended)
pins: 1 VIN (power), 2 VIN (power), 3 ~{SHDN} (in), 4 GND (power), 5 PWRGD (power), 6 CDELAY, 7 ADJ (in), 8 VOUT (power), 9 EP (power)

## MCP1727T-ADJE/SN
designator U?
1.5A, Low Voltage, Low Quiescent Current LDO Regulator, 8-Pin SOIC 150mil, Extended Temperature, Tape and Reel; Manufacturer: Microchip; PartNumber: MCP1727T-ADJE/SN; DatasheetVersion: revB, Feb-2007; PackageVersion: revBB, Aug-2009; PackageReference: SOIC-SN8; PackageDescription: 8-Lead Plastic Small Outline (SN) - Narrow, 3.90mm Body [SOIC]; Supplier 1: Digi-Key; Supplier Part Number 1: MCP1727T-ADJE/SN-ND; Supplier 2: Mouser; Supplier Part Number 2: 579-MCP1727T-ADJE/SN; Mounting Technology: Surface Mount; Code_JEDEC: MS-012; Code_IPC: SOIC127P600-8; ComponentLink1Description: Manufacturer URL; ComponentLink1URL: http://www.microchip.com/; ComponentLink2Description: Datasheet; ComponentLink2URL: http://ww1.microchip.com/downloads/en/DeviceDoc/21999b.pdf; ComponentLink3Description: Package Specification; ComponentLink3URL: http://www.microchip.com/stellent/groups/techpub_sg/documents/packagingspec/en012702.pdf
footprint SOIC-SN8_N (SOIC, 8-Leads, Body 4.9x3.8mm, Pitch 1.27mm, IPC Medium Density)
footprint SOIC-SN8_L (SOIC, 8-Leads, Body 4.9x3.8mm, Pitch 1.27mm, IPC High Density)
footprint SOIC-SN8_M (SOIC, 8-Leads, Body 4.9x3.8mm, Pitch 1.27mm, IPC Low Density)
pins: 1 VIN (power), 2 VIN (power), 3 ~{SHDN} (in), 4 GND (power), 5 PWRGD (power), 6 CDELAY, 7 ADJ (in), 8 VOUT (power)

## MCP1754-5002E/MC
designator U?
150 mA, 16 V, High Performance LDO, -40 to 125 degC, 8-pin DFN (MC8), Tube; Manufacturer: Microchip; PartNumber: MCP1754-5002E/MC; DatasheetVersion: Rev. A; PackageVersion: C04-123C; PackageReference: DFN-MC8; PackageDescription: 8-Lead Plastic Dual Flat, 2 x 3 mm Body, 0.5 mm Pitch; Mounting Technology: Surface Mount; ComponentLink1Description: Manufacturer URL; ComponentLink1URL: http://www.microchip.com; ComponentLink2Description: Datasheet; ComponentLink2URL: http://ww1.microchip.com/downloads/en/DeviceDoc/22276A.pdf; ComponentLink3Description: Package Specification; ComponentLink3URL: http://www.microchip.com/stellent/groups/techpub_sg/documents/packagingspec/en012702.pdf; ComponentLink4Description: Product URL; ComponentLink4URL: http://www.microchip.com/MCP1754
footprint MCHP-DFN-MC8_V (SON, 8-Leads, Body 3x2mm, Pitch 0.5mm, Thermal Pad 1.45x1.75mm)
part A pins: 1 VOUT (power) "Regulated Voltage Output", 2 PWRGD (oc) "Open Drain Power Good Output", 4 GND (power) "Ground Terminal", 5 ~{SHDN} (in) "Shutdown Input", 8 VIN (power) "Unregulated Supply Voltage", 9 GND (power) "Exposed Pad, Connected to GND"
part B pins: 3 NC "No Connection", 6 NC "No Connection", 7 NC "No Connection"

## MCP1754S-1802E/MC
designator U?
150 mA, 16 V, High Performance LDO, -40 to 125 degC, 8-pin DFN (MC8), Tube; Manufacturer: Microchip; PartNumber: MCP1754S-1802E/MC; DatasheetVersion: Rev. A; PackageVersion: C04-123C; PackageReference: DFN-MC8; PackageDescription: 8-Lead Plastic Dual Flat, 2 x 3 mm Body, 0.5 mm Pitch; Mounting Technology: Surface Mount; ComponentLink1Description: Manufacturer URL; ComponentLink1URL: http://www.microchip.com; ComponentLink2Description: Datasheet; ComponentLink2URL: http://ww1.microchip.com/downloads/en/DeviceDoc/22276A.pdf; ComponentLink3Description: Package Specification; ComponentLink3URL: http://www.microchip.com/stellent/groups/techpub_sg/documents/packagingspec/en012702.pdf; ComponentLink4Description: Product URL; ComponentLink4URL: http://www.microchip.com/MCP1754S
footprint MCHP-DFN-MC8_V (SON, 8-Leads, Body 3x2mm, Pitch 0.5mm, Thermal Pad 1.45x1.75mm)
part A pins: 1 VOUT (power) "Regulated Voltage Output", 4 GND (power) "Ground Terminal", 8 VIN (power) "Unregulated Supply Voltage", 9 GND (power) "Exposed Pad, Connected to GND"
part B pins: 2 NC "No Connection", 3 NC "No Connection", 5 NC "No Connection", 6 NC "No Connection", 7 NC "No Connection"

## MCP1754S-3302E/DB
designator U?
150 mA, 16 V, High Performance LDO, -40 to 125 degC, 3-pin SOT-223 (DB3), Tube; Manufacturer: Microchip; PartNumber: MCP1754S-3302E/DB; DatasheetVersion: Rev. A; PackageVersion: C04-032B; PackageReference: SOT-223-DB3; PackageDescription: 3-Lead Plastic Small Outline Transistor, 6.5 x 3.5 mm Body, 2.3 mm Pitch; Mounting Technology: Surface Mount; ComponentLink1Description: Manufacturer URL; ComponentLink1URL: http://www.microchip.com; ComponentLink2Description: Datasheet; ComponentLink2URL: http://ww1.microchip.com/downloads/en/DeviceDoc/22276A.pdf; ComponentLink3Description: Package Specification; ComponentLink3URL: http://www.microchip.com/stellent/groups/techpub_sg/documents/packagingspec/en012702.pdf; ComponentLink4Description: Product URL; ComponentLink4URL: http://www.microchip.com/MCP1754S
footprint MCHP-SOT-223-DB3_N (SOT223, 3-Leads, Body 6.5x3.5mm, Pitch 2.3mm, IPC Medium Density)
footprint MCHP-SOT-223-DB3_L (SOT223, 3-Leads, Body 6.5x3.5mm, Pitch 2.3mm, IPC High Density)
footprint MCHP-SOT-223-DB3_M (SOT223, 3-Leads, Body 6.5x3.5mm, Pitch 2.3mm, IPC Low Density)
pins: 1 VIN (power) "Unregulated Supply Voltage", 2 GND (power) "Ground Terminal", 3 VOUT (power) "Regulated Voltage Output", 4 GND (power) "Exposed Pad, Connected to GND"

## MCP1754S-3302E/MC
designator U?
150 mA, 16 V, High Performance LDO, -40 to 125 degC, 8-pin DFN (MC8), Tube; Manufacturer: Microchip; PartNumber: MCP1754S-3302E/MC; DatasheetVersion: Rev. A; PackageVersion: C04-123C; PackageReference: DFN-MC8; PackageDescription: 8-Lead Plastic Dual Flat, 2 x 3 mm Body, 0.5 mm Pitch; Mounting Technology: Surface Mount; ComponentLink1Description: Manufacturer URL; ComponentLink1URL: http://www.microchip.com; ComponentLink2Description: Datasheet; ComponentLink2URL: http://ww1.microchip.com/downloads/en/DeviceDoc/22276A.pdf; ComponentLink3Description: Package Specification; ComponentLink3URL: http://www.microchip.com/stellent/groups/techpub_sg/documents/packagingspec/en012702.pdf; ComponentLink4Description: Product URL; ComponentLink4URL: http://www.microchip.com/MCP1754S
footprint MCHP-DFN-MC8_V (SON, 8-Leads, Body 3x2mm, Pitch 0.5mm, Thermal Pad 1.45x1.75mm)
part A pins: 1 VOUT (power) "Regulated Voltage Output", 4 GND (power) "Ground Terminal", 8 VIN (power) "Unregulated Supply Voltage", 9 GND (power) "Exposed Pad, Connected to GND"
part B pins: 2 NC "No Connection", 3 NC "No Connection", 5 NC "No Connection", 6 NC "No Connection", 7 NC "No Connection"

## MCP1754S-5002E/DB
designator U?
150 mA, 16 V, High Performance LDO, -40 to 125 degC, 3-pin SOT-223 (DB3), Tube; Manufacturer: Microchip; PartNumber: MCP1754S-5002E/DB; DatasheetVersion: Rev. A; PackageVersion: C04-032B; PackageReference: SOT-223-DB3; PackageDescription: 3-Lead Plastic Small Outline Transistor, 6.5 x 3.5 mm Body, 2.3 mm Pitch; Mounting Technology: Surface Mount; ComponentLink1Description: Manufacturer URL; ComponentLink1URL: http://www.microchip.com; ComponentLink2Description: Datasheet; ComponentLink2URL: http://ww1.microchip.com/downloads/en/DeviceDoc/22276A.pdf; ComponentLink3Description: Package Specification; ComponentLink3URL: http://www.microchip.com/stellent/groups/techpub_sg/documents/packagingspec/en012702.pdf; ComponentLink4Description: Product URL; ComponentLink4URL: http://www.microchip.com/MCP1754S
footprint MCHP-SOT-223-DB3_N (SOT223, 3-Leads, Body 6.5x3.5mm, Pitch 2.3mm, IPC Medium Density)
footprint MCHP-SOT-223-DB3_L (SOT223, 3-Leads, Body 6.5x3.5mm, Pitch 2.3mm, IPC High Density)
footprint MCHP-SOT-223-DB3_M (SOT223, 3-Leads, Body 6.5x3.5mm, Pitch 2.3mm, IPC Low Density)
pins: 1 VIN (power) "Unregulated Supply Voltage", 2 GND (power) "Ground Terminal", 3 VOUT (power) "Regulated Voltage Output", 4 GND (power) "Exposed Pad, Connected to GND"

## MCP1754S-5002E/MC
designator U?
150 mA, 16 V, High Performance LDO, -40 to 125 degC, 8-pin DFN (MC8), Tube; Manufacturer: Microchip; PartNumber: MCP1754S-5002E/MC; DatasheetVersion: Rev. A; PackageVersion: C04-123C; PackageReference: DFN-MC8; PackageDescription: 8-Lead Plastic Dual Flat, 2 x 3 mm Body, 0.5 mm Pitch; Mounting Technology: Surface Mount; ComponentLink1Description: Manufacturer URL; ComponentLink1URL: http://www.microchip.com; ComponentLink2Description: Datasheet; ComponentLink2URL: http://ww1.microchip.com/downloads/en/DeviceDoc/22276A.pdf; ComponentLink3Description: Package Specification; ComponentLink3URL: http://www.microchip.com/stellent/groups/techpub_sg/documents/packagingspec/en012702.pdf; ComponentLink4Description: Product URL; ComponentLink4URL: http://www.microchip.com/MCP1754S
footprint MCHP-DFN-MC8_V (SON, 8-Leads, Body 3x2mm, Pitch 0.5mm, Thermal Pad 1.45x1.75mm)
part A pins: 1 VOUT (power) "Regulated Voltage Output", 4 GND (power) "Ground Terminal", 8 VIN (power) "Unregulated Supply Voltage", 9 GND (power) "Exposed Pad, Connected to GND"
part B pins: 2 NC "No Connection", 3 NC "No Connection", 5 NC "No Connection", 6 NC "No Connection", 7 NC "No Connection"

## MCP1754ST-1802E/CB
designator U?
150 mA, 16 V, High Performance LDO, -40 to 125 degC, 3-pin SOT-23A (CB3), Tape and Reel; Manufacturer: Microchip; PartNumber: MCP1754ST-1802E/CB; DatasheetVersion: Rev. A; PackageVersion: C04-130B; PackageReference: SOT-23A-CB3; PackageDescription: 3-Lead Plastic Small Outline Transistor, 2.9 x 1.5 mm Body, 0.95 mm Pitch; Supplier 1: Digi-Key; Supplier Part Number 1: MCP1754ST-1802E/CBTR-ND; Supplier 2: Digi-Key; Supplier Part Number 2: MCP1754ST-1802E/CBCT-ND; Supplier 3: Digi-Key; Supplier Part Number 3: MCP1754ST-1802E/CBDKR-ND; Supplier 4: Farnell; Supplier Part Number 4: 2065844RL; Supplier 5: Farnell; Supplier Part Number 5: 2065844; Supplier 6: Mouser; Supplier Part Number 6: 579-MCP1754T-1802ECB; Mounting Technology: Surface Mount; ComponentLink1Description: Manufacturer URL; ComponentLink1URL: http://www.microchip.com; ComponentLink2Description: Datasheet; ComponentLink2URL: http://ww1.microchip.com/downloads/en/DeviceDoc/22276A.pdf; ComponentLink3Description: Package Specification; ComponentLink3URL: http://www.microchip.com/stellent/groups/techpub_sg/documents/packagingspec/en012702.pdf; ComponentLink4Description: Product URL; ComponentLink4URL: http://www.microchip.com/MCP1754S
footprint MCHP-SOT-23A-CB3_N (SOT23, 3-Leads, Body 2.9x1.5mm, Pitch 0.95mm, IPC Medium Density)
footprint MCHP-SOT-23A-CB3_L (SOT23, 3-Leads, Body 2.9x1.5mm, Pitch 0.95mm, IPC High Density)
footprint MCHP-SOT-23A-CB3_M (SOT23, 3-Leads, Body 2.9x1.5mm, Pitch 0.95mm, IPC Low Density)
pins: 1 GND (power) "Ground Terminal", 2 VOUT (power) "Regulated Output Voltage", 3 VIN (power) "Unregulated Input Voltage"

## MCP1754ST-1802E/MB
designator U?
150 mA, 16 V, High Performance LDO, -40 to 125 degC, 3-pin SOT-89 (MB3), Tape and Reel; Manufacturer: Microchip; PartNumber: MCP1754ST-1802E/MB; DatasheetVersion: Rev. A; PackageVersion: C04-029B; PackageReference: SOT-89-MB3; PackageDescription: 3-Lead Plastic Small Outline Transistor Header, 4.5 x 2.45 mm Body, 1.5 mm Pitch; Supplier 1: Digi-Key; Supplier Part Number 1: MCP1754ST-1802E/MBTR-ND; Supplier 2: Digi-Key; Supplier Part Number 2: MCP1754ST-1802E/MBCT-ND; Supplier 3: Digi-Key; Supplier Part Number 3: MCP1754ST-1802E/MBDKR-ND; Supplier 4: Farnell; Supplier Part Number 4: 2065845; Supplier 5: Farnell; Supplier Part Number 5: 2065845RL; Supplier 6: Mouser; Supplier Part Number 6: 579-MCP1754T-1802EMB; Mounting Technology: Surface Mount; ComponentLink1Description: Manufacturer URL; ComponentLink1URL: http://www.microchip.com; ComponentLink2Description: Datasheet; ComponentLink2URL: http://ww1.microchip.com/downloads/en/DeviceDoc/22276A.pdf; ComponentLink3Description: Package Specification; ComponentLink3URL: http://www.microchip.com/stellent/groups/techpub_sg/documents/packagingspec/en012702.pdf; ComponentLink4Description: Product URL; ComponentLink4URL: http://www.microchip.com/MCP1754S
footprint MCHP-SOT-89-MB3_N (SOT89, 3-Leads, Body 4.5x2.45mm, Pitch 1.5mm, IPC Medium Density)
footprint MCHP-SOT-89-MB3_L (SOT89, 3-Leads, Body 4.5x2.45mm, Pitch 1.5mm, IPC High Density)
footprint MCHP-SOT-89-MB3_M (SOT89, 3-Leads, Body 4.5x2.45mm, Pitch 1.5mm, IPC Low Density)
pins: 1 VIN (power) "Unregulated Supply Voltage", 2 GND (power) "Ground Terminal", 3 VOUT (power) "Regulated Voltage Output", 4 GND (power) "Exposed Pad, Connected to GND"

## MCP1754ST-1802E/MC
designator U?
150 mA, 16 V, High Performance LDO, -40 to 125 degC, 8-pin DFN (MC8), Tape and Reel; Manufacturer: Microchip; PartNumber: MCP1754ST-1802E/MC; DatasheetVersion: Rev. A; PackageVersion: C04-123C; PackageReference: DFN-MC8; PackageDescription: 8-Lead Plastic Dual Flat, 2 x 3 mm Body, 0.5 mm Pitch; Supplier 1: Digi-Key; Supplier Part Number 1: MCP1754ST-1802E/MC-ND; Supplier 2: Mouser; Supplier Part Number 2: 579-MCP1754ST1802EMC; Mounting Technology: Surface Mount; ComponentLink1Description: Manufacturer URL; ComponentLink1URL: http://www.microchip.com; ComponentLink2Description: Datasheet; ComponentLink2URL: http://ww1.microchip.com/downloads/en/DeviceDoc/22276A.pdf; ComponentLink3Description: Package Specification; ComponentLink3URL: http://www.microchip.com/stellent/groups/techpub_sg/documents/packagingspec/en012702.pdf; ComponentLink4Description: Product URL; ComponentLink4URL: http://www.microchip.com/MCP1754S
footprint MCHP-DFN-MC8_V (SON, 8-Leads, Body 3x2mm, Pitch 0.5mm, Thermal Pad 1.45x1.75mm)
part A pins: 1 VOUT (power) "Regulated Voltage Output", 4 GND (power) "Ground Terminal", 8 VIN (power) "Unregulated Supply Voltage", 9 GND (power) "Exposed Pad, Connected to GND"
part B pins: 2 NC "No Connection", 3 NC "No Connection", 5 NC "No Connection", 6 NC "No Connection", 7 NC "No Connection"

## MCP1754ST-3302E/CB
designator U?
150 mA, 16 V, High Performance LDO, -40 to 125 degC, 3-pin SOT-23A (CB3), Tape and Reel; Manufacturer: Microchip; PartNumber: MCP1754ST-3302E/CB; DatasheetVersion: Rev. A; PackageVersion: C04-130B; PackageReference: SOT-23A-CB3; PackageDescription: 3-Lead Plastic Small Outline Transistor, 2.9 x 1.5 mm Body, 0.95 mm Pitch; Supplier 1: Digi-Key; Supplier Part Number 1: MCP1754ST-3302E/CBTR-ND; Supplier 2: Digi-Key; Supplier Part Number 2: MCP1754ST-3302E/CBCT-ND; Supplier 3: Digi-Key; Supplier Part Number 3: MCP1754ST-3302E/CBDKR-ND; Supplier 4: Farnell; Supplier Part Number 4: 2065846RL; Supplier 5: Farnell; Supplier Part Number 5: 2065846; Supplier 6: Mouser; Supplier Part Number 6: 579-MCP1754T-3302ECB; Mounting Technology: Surface Mount; ComponentLink1Description: Manufacturer URL; ComponentLink1URL: http://www.microchip.com; ComponentLink2Description: Datasheet; ComponentLink2URL: http://ww1.microchip.com/downloads/en/DeviceDoc/22276A.pdf; ComponentLink3Description: Package Specification; ComponentLink3URL: http://www.microchip.com/stellent/groups/techpub_sg/documents/packagingspec/en012702.pdf; ComponentLink4Description: Product URL; ComponentLink4URL: http://www.microchip.com/MCP1754S
footprint MCHP-SOT-23A-CB3_N (SOT23, 3-Leads, Body 2.9x1.5mm, Pitch 0.95mm, IPC Medium Density)
footprint MCHP-SOT-23A-CB3_L (SOT23, 3-Leads, Body 2.9x1.5mm, Pitch 0.95mm, IPC High Density)
footprint MCHP-SOT-23A-CB3_M (SOT23, 3-Leads, Body 2.9x1.5mm, Pitch 0.95mm, IPC Low Density)
pins: 1 GND (power) "Ground Terminal", 2 VOUT (power) "Regulated Output Voltage", 3 VIN (power) "Unregulated Input Voltage"

## MCP1754ST-3302E/DB
designator U?
150 mA, 16 V, High Performance LDO, -40 to 125 degC, 3-pin SOT-223 (DB3), Tape and Reel; Manufacturer: Microchip; PartNumber: MCP1754ST-3302E/DB; DatasheetVersion: Rev. A; PackageVersion: C04-032B; PackageReference: SOT-223-DB3; PackageDescription: 3-Lead Plastic Small Outline Transistor, 6.5 x 3.5 mm Body, 2.3 mm Pitch; Supplier 1: Digi-Key; Supplier Part Number 1: MCP1754ST-3302E/DB-ND; Supplier 2: Newark; Supplier Part Number 2: 58T9713; Supplier 3: Mouser; Supplier Part Number 3: 579-MCP1754T-3302EDB; Mounting Technology: Surface Mount; ComponentLink1Description: Manufacturer URL; ComponentLink1URL: http://www.microchip.com; ComponentLink2Description: Datasheet; ComponentLink2URL: http://ww1.microchip.com/downloads/en/DeviceDoc/22276A.pdf; ComponentLink3Description: Package Specification; ComponentLink3URL: http://www.microchip.com/stellent/groups/techpub_sg/documents/packagingspec/en012702.pdf; ComponentLink4Description: Product URL; ComponentLink4URL: http://www.microchip.com/MCP1754S
footprint MCHP-SOT-223-DB3_N (SOT223, 3-Leads, Body 6.5x3.5mm, Pitch 2.3mm, IPC Medium Density)
footprint MCHP-SOT-223-DB3_L (SOT223, 3-Leads, Body 6.5x3.5mm, Pitch 2.3mm, IPC High Density)
footprint MCHP-SOT-223-DB3_M (SOT223, 3-Leads, Body 6.5x3.5mm, Pitch 2.3mm, IPC Low Density)
pins: 1 VIN (power) "Unregulated Supply Voltage", 2 GND (power) "Ground Terminal", 3 VOUT (power) "Regulated Voltage Output", 4 GND (power) "Exposed Pad, Connected to GND"